# EAGLE library part MAX30205 (library CalvEngIO-Sensors)
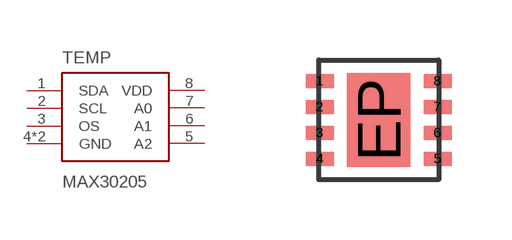
[diagram p9: symbol with the pads of 8-TDFN-EP; footprint 8-TDFN-EP]

Designator prefix TEMP

## MAX30205  [8-TDFN-EP]
1  SDA
2  SCL
3  OS
4  GND
5  A2
6  A1
7  A0
8  VDD
EP  GND

## Footprint 8-TDFN-EP (pad centres in mm)
smd 0.7 x 0.35: 1 -1.475,0.975; 2 -1.475,0.325; 3 -1.475,-0.325; 4 -1.475,-0.975; 5 1.475,-0.975; 6 1.475,-0.325; 7 1.475,0.325; 8 1.475,0.975
smd 1.58 x 2.35: EP 0,0